# EAGLE library part DB37M (library connect)
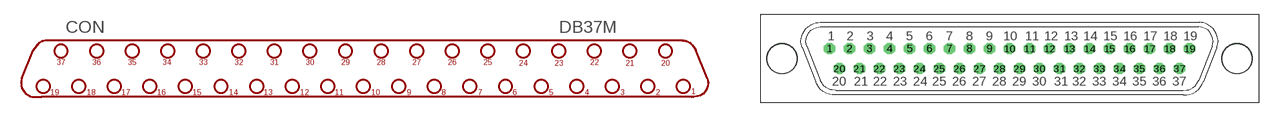
[diagram p14: symbol with the pads of D-37M; footprint D-37M]

Designator prefix CON

## DB37M  [D-37M]
1  1  pas
2  2  pas
3  3  pas
4  4  pas
5  5  pas
6  6  pas
7  7  pas
8  8  pas
9  9  pas
10  10  pas
11  11  pas
12  12  pas
13  13  pas
14  14  pas
15  15  pas
16  16  pas
17  17  pas
18  18  pas
19  19  pas
20  20  pas
21  21  pas
22  22  pas
23  23  pas
24  24  pas
25  25  pas
26  26  pas
27  27  pas
28  28  pas
29  29  pas
30  30  pas
31  31  pas
32  32  pas
33  33  pas
34  34  pas
35  35  pas
36  36  pas
37  37  pas

## Footprint D-37M (pad centres in mm)
drill 1.016 pad 1.575 octagon: 1 -25.146,1.397; 2 -22.352,1.397; 3 -19.558,1.397; 4 -16.764,1.397; 5 -13.97,1.397; 6 -11.176,1.397; 7 -8.382,1.397; 8 -5.588,1.397; 9 -2.794,1.397; 10 0,1.397; 11 2.794,1.397; 12 5.588,1.397; 13 8.382,1.397; 14 11.176,1.397; 15 13.97,1.397; 16 16.764,1.397; 17 19.558,1.397; 18 22.352,1.397; 19 25.146,1.397; 20 -23.749,-1.397; 21 -20.955,-1.397; 22 -18.161,-1.397; 23 -15.367,-1.397; 24 -12.573,-1.397; 25 -9.779,-1.397; 26 -6.985,-1.397; 27 -4.191,-1.397; 28 -1.397,-1.397; 29 1.397,-1.397; 30 4.191,-1.397; 31 6.985,-1.397; 32 9.779,-1.397; 33 12.573,-1.397; 34 15.367,-1.397; 35 18.161,-1.397; 36 20.955,-1.397; 37 23.749,-1.397
hole 4.115 at 31.75,0
hole 4.115 at -31.75,0